# EAGLE library part SPARKFUN-9DOF-IMU (library MITCH Shield)
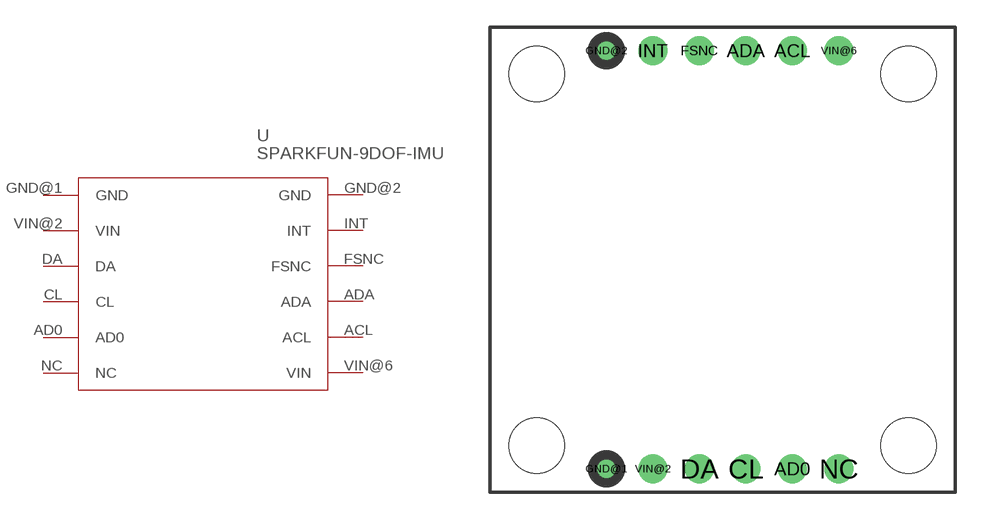
[diagram p4: symbol with the pads of SPARKFUN-9DOF-IMU1; footprint SPARKFUN-9DOF-IMU1]

Designator prefix -

## SPARKFUN-9DOF-IMU  [SPARKFUN-9DOF-IMU1]
ACL  ACL
AD0  AD0
ADA  ADA
CL  CL
DA  DA
FSNC  FSNC
GND@1  GND
GND@2  GND
INT  INT
NC  NC
VIN@2  VIN
VIN@6  VIN

## Footprint SPARKFUN-9DOF-IMU1 (pad centres in mm)
drill 1.07: ACL 16.51,24.13; AD0 16.51,1.27; ADA 13.97,24.13; CL 13.97,1.27; DA 11.43,1.27; FSNC 11.43,24.13; GND@1 6.35,1.27; GND@2 6.35,24.13; INT 8.89,24.13; NC 19.05,1.27; VIN@2 8.89,1.27; VIN@6 19.05,24.13
hole 3.048 at 22.86,22.86
hole 3.048 at 22.86,2.54
hole 3.048 at 2.54,2.54
hole 3.048 at 2.54,22.86